# EAGLE library part ADP3110A (library open-bldc)
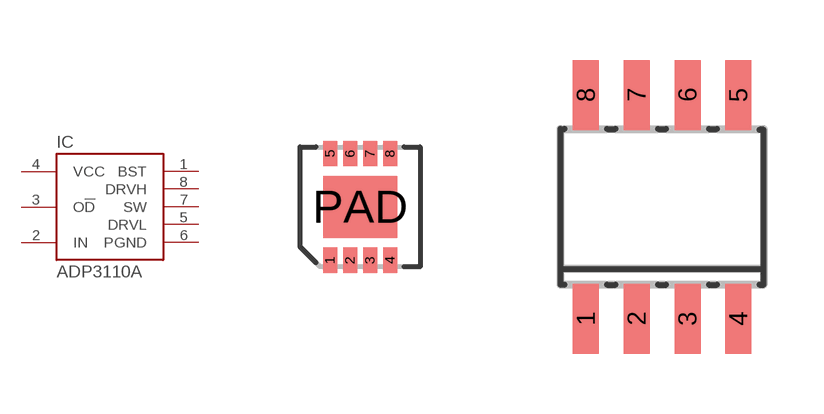
[diagram p26: symbol with the pads of DFN8-3X3; footprints DFN8-3X3, SO8]

Designator prefix IC

## ADP3110A-DFN8  [DFN8-3X3]
1  BST
2  IN
3  O!D
4  VCC
5  DRVL
6  PGND
7  SW
8  DRVH

## ADP3110A-SO8  [SO8]
Pads as for DFN8-3X3

## Footprint DFN8-3X3 (pad centres in mm)
smd 0.35 x 0.63: 1 -0.75,-1.335; 2 -0.25,-1.335; 3 0.25,-1.335; 4 0.75,-1.335; 5 -0.75,1.335; 6 -0.25,1.335; 7 0.25,1.335; 8 0.75,1.335
smd 1.85 x 1.55: PAD 0,0

## Footprint SO8 (pad centres in mm)
Complient to the IPC7351 standard (SOIC127P600X175-8M)
smd 0.65 x 1.75: 1 -1.905,-2.8; 2 -0.635,-2.8; 3 0.635,-2.8; 4 1.905,-2.8; 5 1.905,2.8; 6 0.635,2.8; 7 -0.635,2.8; 8 -1.905,2.8